# Altium footprint library FC_v2.0_PcbLib.PcbLib: 28 footprints (part 2 of 2)
Each footprint in its own frame and in the unit in brackets; x right, y up, seen from the top. Pads: shape width x height; smd on the part's side, far side on the other; paste and mask are expansions set on the pad; w line width, h text height; cw(c..) or ccw(c..) is an arc to the next point about the centre after c.
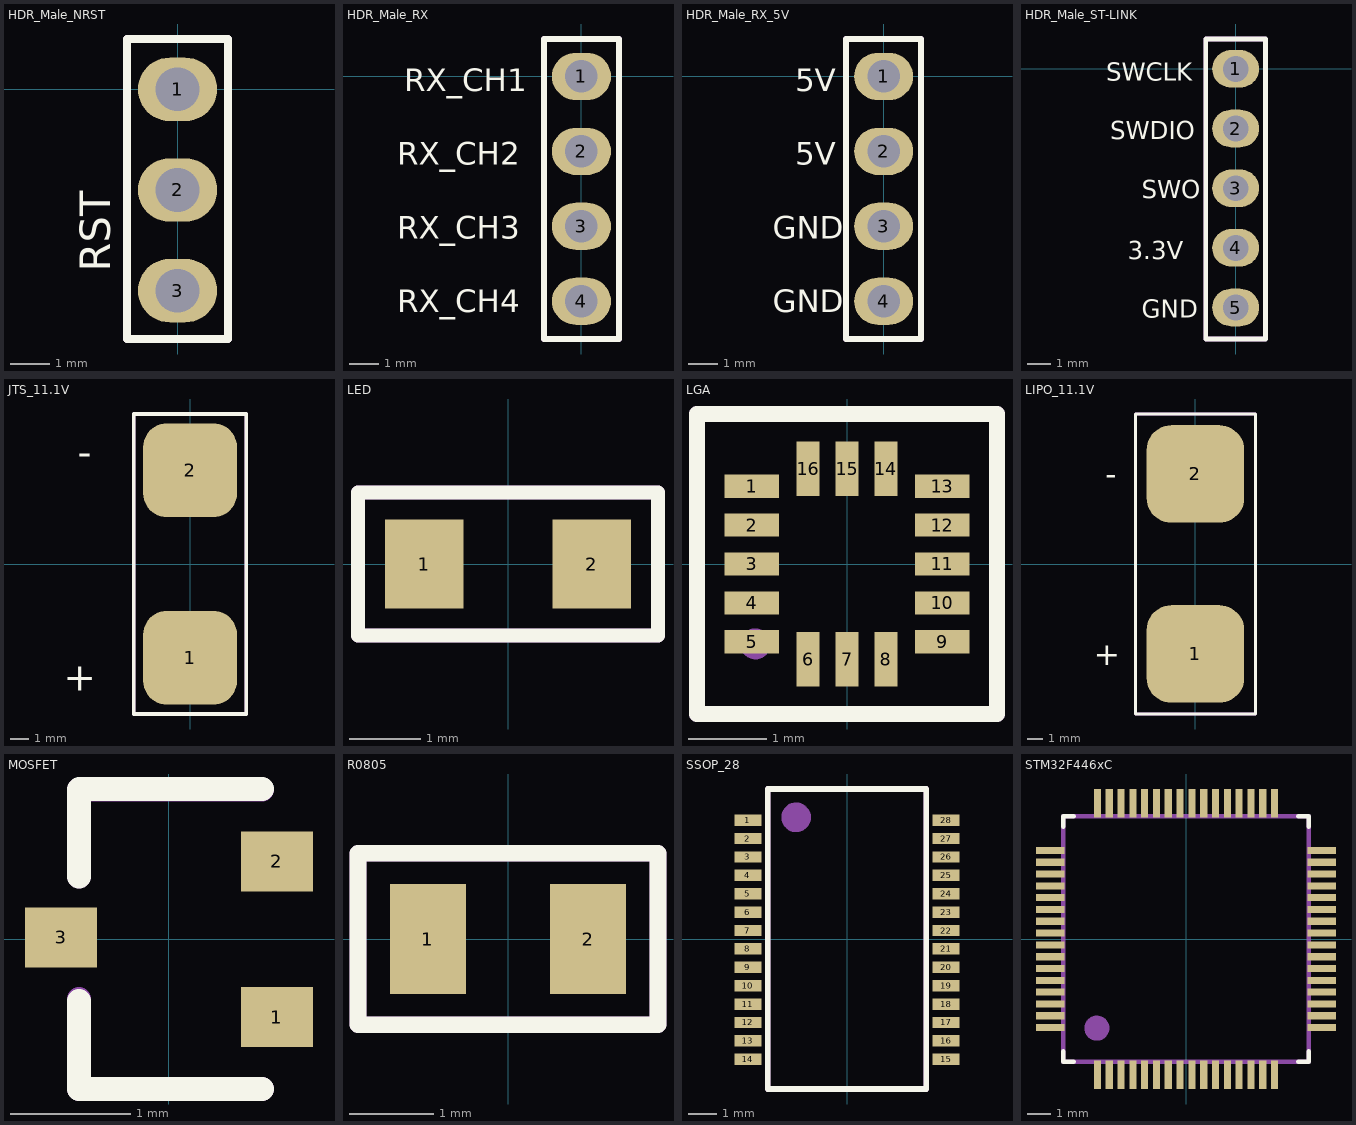
[diagram p1: the footprints below, top view; thin cyan lines are the x and y axes]

## HDR_Male_NRST [mm]
pads (3):
  oval 2x1.6 hole 1.1: 1(0,0) 2(0,-2.54) 3(0,-5.08)
Top Overlay:
  lines w0.2: -1.27,-6.3 1.27,-6.3 1.27,1.27 -1.27,1.27 -1.27,-6.3
  text "RST" at -1.7,-4.6 h0.76
Mechanical 29:
  lines w0.2: -1.27,-6.3 1.27,-6.3 1.27,1.27 -1.27,1.27 -1.27,-6.3
  text "'.Designator'" at 0.3,-3.5 h0.76
3D body "Header_Male_1Pin.STEP": height 8.54, standoff -3, extent -1.2,-1.205 1.34,1.285
3D body "Header_Male_1Pin.STEP": height 8.54, standoff -3, extent -1.2,-3.745 1.34,-1.255
3D body "Header_Male_1Pin.STEP": height 8.54, standoff -3, extent -1.2,-6.285 1.34,-3.795

## HDR_Male_RX [mm]
pads (4):
  oval 2x1.6 hole 1.1: 1(0,0) 2(0,-2.54) 3(0,-5.08) 4(0,-7.62)
Top Overlay:
  lines w0.2: -1.27,-8.9 1.27,-8.9 1.27,1.27 -1.27,1.27 -1.27,-8.9
  text "RX_CH4" at -6.25,-8 h0.76
  text "RX_CH3" at -6.25,-5.5 h0.76
  text "RX_CH2" at -6.25,-3 h0.76
  text "RX_CH1" at -6,-0.5 h0.76
Mechanical 29:
  lines w0.2: -1.27,-8.9 1.27,-8.9 1.27,1.27 -1.27,1.27 -1.27,-8.9
  text "'.Designator'" at 0.3,-4.2 h0.76
3D body "Header_Male_RA_Low_1Pin.STEP": height 4.14, standoff -5.99, extent -1.215,-6.37 4.3,-3.83
3D body "Header_Male_RA_Low_1Pin.STEP": height 4.14, standoff -5.99, extent -1.215,-3.77 4.3,-1.23
3D body "Header_Male_RA_Low_1Pin.STEP": height 4.14, standoff -5.99, extent -1.257,-8.94 4.257,-6.4
3D body "Header_Male_RA_Low_1Pin.STEP": height 4.14, standoff -5.99, extent -1.215,-1.27 4.3,1.27

## HDR_Male_RX_5V [mm]
pads (4):
  oval 2x1.6 hole 1.1: 1(0,0) 2(0,-2.54) 3(0,-5.08) 4(0,-7.62)
Top Overlay:
  lines w0.2: -1.27,-8.9 -1.27,1.27 1.27,1.27 1.27,-8.9 -1.27,-8.9
  text "GND" at -3.75,-5.5 h0.76
  text "GND" at -3.75,-8 h0.76
  text "5V" at -3,-0.5 h0.76
  text "5V" at -3,-3 h0.76
Mechanical 29:
  lines w0.2: -1.27,-8.9 -1.27,1.27 1.27,1.27 1.27,-8.9 -1.27,-8.9
  text "'.Designator'" at 0.3,-4.2 h0.76
3D body "Header_Male_RA_Low_1Pin.STEP": height 4.14, standoff -5.99, extent -1.215,-1.27 4.3,1.27
3D body "Header_Male_RA_Low_1Pin.STEP": height 4.14, standoff -5.99, extent -1.257,-8.94 4.257,-6.4
3D body "Header_Male_RA_Low_1Pin.STEP": height 4.14, standoff -5.99, extent -1.215,-3.77 4.3,-1.23
3D body "Header_Male_RA_Low_1Pin.STEP": height 4.14, standoff -5.99, extent -1.215,-6.37 4.3,-3.83

## HDR_Male_ST-LINK [mm]
pads (5):
  oval 2x1.6 hole 1.1: 1(0,0) 2(0,-2.54) 3(0,-5.08) 4(0,-7.62) 5(0,-10.16)
Top Overlay:
  lines w0.2: -1.27,-11.5 -1.27,1.27 1.27,1.27 1.27,-11.5 -1.27,-11.5
  text "SWO" at -4,-5.5 h0.76
  text "SWCLK" at -5.5,-0.5 h0.76
  text "SWDIO" at -5.35,-3 h0.76
  text "3.3V" at -4.6,-8.1 h0.76
  text "GND" at -4,-10.6 h0.76
Mechanical 29:
  lines w0.2: -1.27,-11.5 -1.27,1.27 1.27,1.27 1.27,-11.5 -1.27,-11.5
  text "'.Designator'" at 0.3,-8 h0.76
3D body "Header_Male_1Pin.STEP": height 8.54, standoff -3, extent -1.27,-11.405 1.27,-8.915
3D body "Header_Male_1Pin.STEP": height 8.54, standoff -3, extent -1.2,-8.825 1.34,-6.335
3D body "Header_Male_1Pin.STEP": height 8.54, standoff -3, extent -1.2,-6.285 1.34,-3.795
3D body "Header_Male_1Pin.STEP": height 8.54, standoff -3, extent -1.2,-3.745 1.34,-1.255
3D body "Header_Male_1Pin.STEP": height 8.54, standoff -3, extent -1.2,-1.205 1.34,1.285

## JTS_11.1V [mm]
pads (2):
  rrect50% 5x5 smd: 1(0,-5) 2(0,5)
Top Overlay:
  lines w0.2: -3,-8 -3,8 3,8 3,-8 -3,-8
  text "-" at -5.25,5.25 h1.52
  text "+" at -5,-6.75 h1.52
Mechanical 29:
  lines w0.2: -3,-8 -3,8 3,8 3,-8 -3,-8
  text "'.Designator'" at -1.5,-0.6 h1.52

## LED [mm]
pads (2):
  rect 1.1x1.25 smd: 1(-1.175,0) 2(1.175,0)
Top Overlay:
  lines w0.2: -2.1,-1 -2.1,1 2.1,1 2.1,-1 -2.1,-1
Mechanical 29:
  lines w0.2: -2.1,-1 2.1,-1 2.1,1 -2.1,1 -2.1,-1
  text "'.Designator'" at -1.1,-0.3 h0.76

## LGA [mm]
pads (16):
  rect 0.7x0.3 smd mask+0.04: 1(-1.225,1) 2(-1.225,0.5) 3(-1.225,0) 4(-1.225,-0.5) 5(-1.225,-1) 9(1.225,-1) 10(1.225,-0.5) 11(1.225,0) 12(1.225,0.5) 13(1.225,1)
  rect 0.3x0.7 smd mask+0.04: 6(-0.5,-1.225) 7(0,-1.225) 8(0.5,-1.225) 14(0.5,1.225) 15(0,1.225) 16(-0.5,1.225)
Top Overlay:
  lines w0.2: -1.925,-1.925 1.925,-1.925 1.925,1.925 -1.925,1.925 -1.925,-1.925
Mechanical 29:
  circle w0.254: c-1.175,-1.025 r0.071
  lines w0.2: -1.925,-1.925 -1.925,1.925 1.925,1.925 1.925,-1.925 -1.925,-1.925
  text "'.Designator'" at -0.375,-0.35 h0.76
3D body: height 0.4, standoff 0, extent -1.5,-1.5 1.5,1.5

## LIPO_11.1V [mm]
pads (2):
  rrect50% 6.5x6.5 smd: 1(0,-6) 2(0,6)
Top Overlay:
  lines w0.2: -4,-10 -4,10 4,10 4,-10 -4,-10
  text "-" at -5.25,5.25 h1.52
  text "+" at -5,-6.75 h1.52
Mechanical 29:
  lines w0.2: -4,-10 -4,10 4,10 4,-10 -4,-10
  text "'.Designator'" at -2.7,-0.1 h1.52

## MOSFET [mm]
pads (3):
  rect 0.6x0.5 smd: 1(0.9,-0.65) 2(0.9,0.65) 3(-0.9,0.015)
Top Overlay:
  lines w0.2: -0.75,-0.515 -0.75,-1.25 0.775,-1.25 ; -0.75,0.525 -0.75,1.25 -0.746,1.254 0.775,1.254
Mechanical 29:
  lines w0.2: -0.75,-0.5 -0.75,-1.25 0.775,-1.25 ; -0.75,0.525 -0.75,1.25 0.775,1.25
  text "'.Designator'" at -0.5,-0.08 h0.38
3D body "User Library-SOT323 (SC70-3)-1.STEP": height 1.11, standoff 0.01, extent -1.123,-1.085 1.123,1.115

## R0805 [mm]
pads (2):
  rect 0.9x1.3 smd: 1(-0.95,0) 2(0.95,0)
Top Overlay:
  lines w0.2: -1.778,-1.016 1.778,-1.016 1.778,1.016 -1.778,1.016 -1.778,-1.016
Mechanical 29:
  lines w0.2: -1.778,-1.016 -1.778,1.016 1.778,1.016 1.778,-1.016 -1.778,-1.016
  text "'.Designator'" at 0.762,-0.508 h0.76
3D body "resistors0805.STEP": height 0.46, standoff 0.01, extent -1,-0.63 1,0.63

## SSOP_28 [mm]
pads (28):
  rect 0.95x0.4 smd mask+0.05: 1(-3.5,4.2) 2(-3.5,3.55) 3(-3.5,2.9) 4(-3.5,2.25) 5(-3.5,1.6) 6(-3.5,0.95) 7(-3.5,0.3) 8(-3.5,-0.35) 9(-3.5,-1) 10(-3.5,-1.65) 11(-3.5,-2.3) 12(-3.5,-2.95) 13(-3.5,-3.6) 14(-3.5,-4.25) 15(3.5,-4.25) 16(3.5,-3.6) 17(3.5,-2.95) 18(3.5,-2.3) 19(3.5,-1.65) 20(3.5,-1) 21(3.5,-0.35) 22(3.5,0.3) 23(3.5,0.95) 24(3.5,1.6) 25(3.5,2.25) 26(3.5,2.9) 27(3.5,3.55) 28(3.5,4.2)
Top Overlay:
  lines w0.2: -2.8,-5.3 2.8,-5.3 2.8,5.3 -2.8,5.3 -2.8,-5.3
Mechanical 29:
  circle w0.6: c-1.8,4.3 r0.224
  lines w0.2: -2.8,-5.3 2.8,-5.3 2.8,5.3 -2.8,5.3 -2.8,-5.3
  text "'.Designator'" at 0.7,-3.9 h1.52
3D body "SSOP-28-FT232RL.STEP": height 2.02, standoff -0.14, extent -3.878,-5.165 3.878,5.165

## STM32F446xC [mm]
pads (64):
  rect 0.3x1.2 smd mask+0.04: 1(-3.75,-5.75) 2(-3.25,-5.75) 3(-2.75,-5.75) 4(-2.25,-5.75) 5(-1.75,-5.75) 6(-1.25,-5.75) 7(-0.75,-5.75) 8(-0.25,-5.75) 9(0.25,-5.75) 10(0.75,-5.75) 11(1.25,-5.75) 12(1.75,-5.75) 13(2.25,-5.75) 14(2.75,-5.75) 15(3.25,-5.75) 16(3.75,-5.75) 33(3.75,5.75) 34(3.25,5.75) 35(2.75,5.75) 36(2.25,5.75) 37(1.75,5.75) 38(1.25,5.75) 39(0.75,5.75) 40(0.25,5.75) 41(-0.25,5.75) 42(-0.75,5.75) 43(-1.25,5.75) 44(-1.75,5.75) 45(-2.25,5.75) 46(-2.75,5.75) 47(-3.25,5.75) 48(-3.75,5.75)
  rect 1.2x0.3 smd mask+0.04: 17(5.75,-3.75) 18(5.75,-3.25) 19(5.75,-2.75) 20(5.75,-2.25) 21(5.75,-1.75) 22(5.75,-1.25) 23(5.75,-0.75) 24(5.75,-0.25) 25(5.75,0.25) 26(5.75,0.75) 27(5.75,1.25) 28(5.75,1.75) 29(5.75,2.25) 30(5.75,2.75) 31(5.75,3.25) 32(5.75,3.75) 49(-5.75,3.75) 50(-5.75,3.25) 51(-5.75,2.75) 52(-5.75,2.25) 53(-5.75,1.75) 54(-5.75,1.25) 55(-5.75,0.75) 56(-5.75,0.25) 57(-5.75,-0.25) 58(-5.75,-0.75) 59(-5.75,-1.25) 60(-5.75,-1.75) 61(-5.75,-2.25) 62(-5.75,-2.75) 63(-5.75,-3.25) 64(-5.75,-3.75)
Top Overlay:
  lines w0.2: -5.2,-4.75 -5.2,-5.2 -4.75,-5.2 ; -5.2,4.75 -5.2,5.2 -4.75,5.2 ; 4.75,-5.2 5.2,-5.2 5.2,-4.75 ; 4.75,5.2 5.2,5.2 5.2,4.75
Mechanical 29:
  circle w0.554: c-3.775,-3.775 r0.253
  lines w0.2: -5.2,-5.2 5.2,-5.2 5.2,5.2 -5.2,5.2 -5.2,-5.2
  text "'.Designator'" at -1.925,-0.2 h0.76
3D body "STM32F4 -LQFP64.STEP": height 1.6, standoff 0.01, extent -5.999,-6 5.999,5.997